# EAGLE library part 8PIN-ZH (library diskohedron)
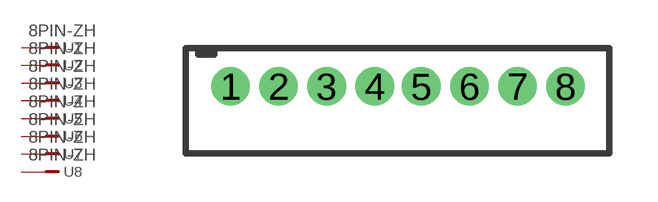
[diagram p3: symbol with the pads of B8B-ZH; footprint B8B-ZH]

Designator prefix -; gates 1=PINVN 2=PINVN 3=PINVN 4=PINVN 5=PINVN 6=PINVN 7=PINVN 8=PINVN

## 8PIN-ZH  [B8B-ZH]
1  1:1  pas
2  2:1  pas
3  3:1  pas
4  4:1  pas
5  5:1  pas
6  6:1  pas
7  7:1  pas
8  8:1  pas

## Footprint B8B-ZH (pad centres in mm)
drill 0.7 pad 1.1: 1 -2.25,0; 2 -0.75,0; 3 0.75,0; 4 2.25,0; 5 3.7,0; 6 5.2,0; 7 6.7,0; 8 8.2,0